# EAGLE library part AM26LV32E (library microLib)
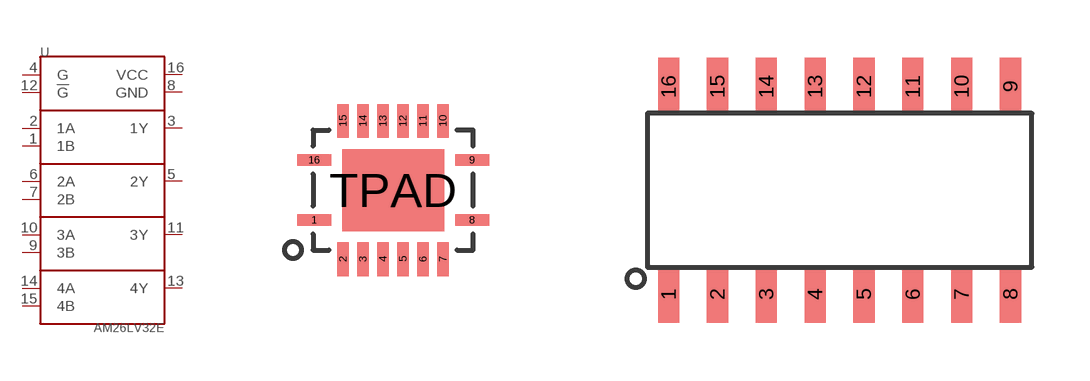
[diagram p8: symbol with the pads of RGY_16; footprints RGY_16, SO_16]

Designator prefix -

## AM26LV32ERGY-16  [RGY_16]
1  1B
2  1A
3  1Y
4  G
5  2Y
6  2A
7  2B
8  GND  pwr
9  3B
10  3A
11  3Y
12  !G!
13  4Y
14  4A
15  4B
16  VCC  pwr

## AM26LV32ESO-16  [SO_16]
Pads as for RGY_16

## Footprint RGY_16 (pad centres in mm)
smd 0.85 x 0.28: 1 -1.975,-0.75; 8 1.975,-0.75; 9 1.975,0.75; 16 -1.975,0.75
smd 0.28 x 0.85: 2 -1.25,-1.725; 3 -0.75,-1.725; 4 -0.25,-1.725; 5 0.25,-1.725; 6 0.75,-1.725; 7 1.25,-1.725; 10 1.25,1.725; 11 0.75,1.725; 12 0.25,1.725; 13 -0.25,1.725; 14 -0.75,1.725; 15 -1.25,1.725
smd 2.55 x 2.05: TPAD 0,0

## Footprint SO_16 (pad centres in mm)
smd 0.55 x 1.5: 1 -4.445,-2.7; 2 -3.175,-2.7; 3 -1.905,-2.7; 4 -0.635,-2.7; 5 0.635,-2.7; 6 1.905,-2.7; 7 3.175,-2.7; 8 4.445,-2.7; 9 4.445,2.7; 10 3.175,2.7; 11 1.905,2.7; 12 0.635,2.7; 13 -0.635,2.7; 14 -1.905,2.7; 15 -3.175,2.7; 16 -4.445,2.7